# EAGLE library part 390322-1 (library Custom)
DIMM SOCKET 144 POS, 0.8mm PITCH
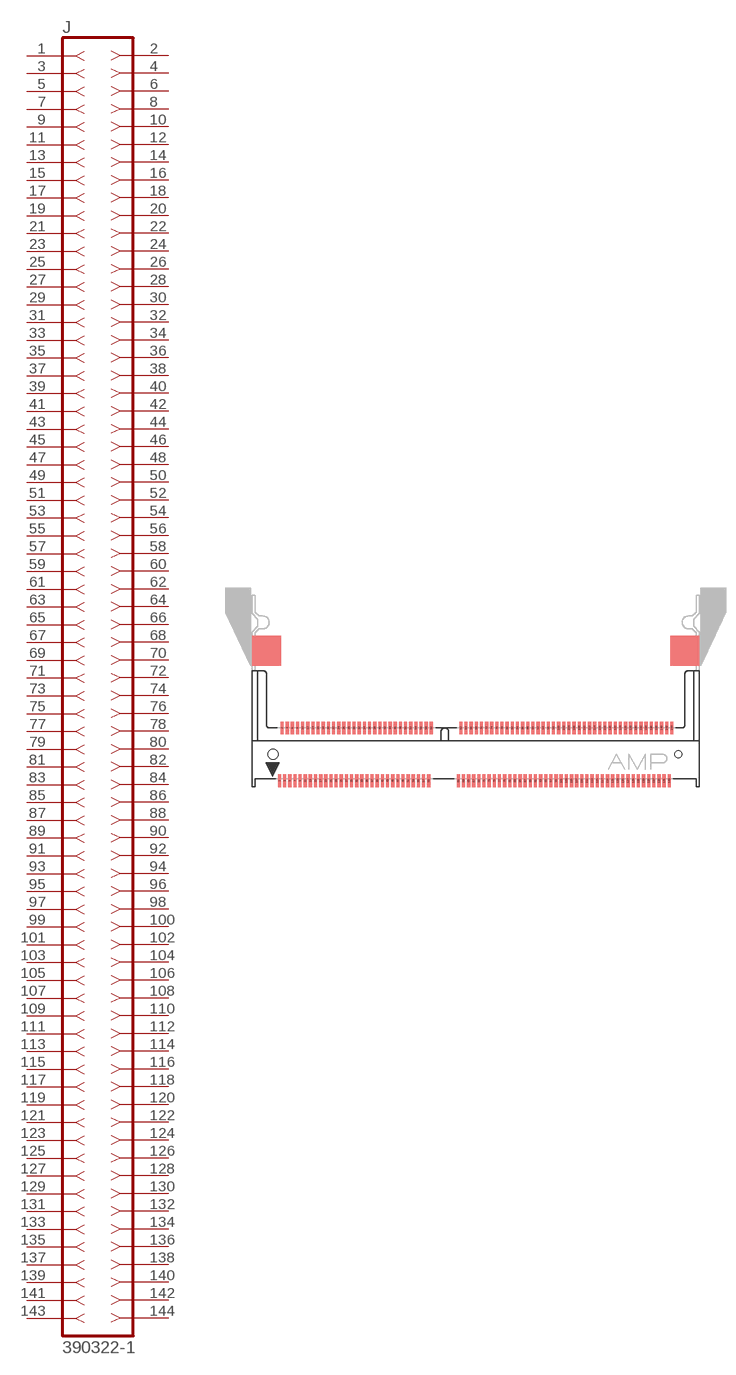
[diagram p18: symbol with the pads of 390322-1; footprint 390322-1]

Designator prefix J

## 390322-1  [390322-1]
1  GND$0  pwr
2  2
3  DQ0
4  4
5  5
6  6
7  7
8  8
9  9
10  10
11  11
12  12
13  13
14  14
15  15
16  16
17  17
18  18
19  19
20  20
21  21
22  22
23  23
24  24
25  25
26  26
27  27
28  28
29  29
30  30
31  31
32  32
33  33
34  34
35  35
36  36
37  37
38  38
39  39
40  40
41  41
42  42
43  43
44  44
45  45
46  46
47  47
48  48
49  49
50  50
51  51
52  52
53  53
54  54
55  55
56  56
57  57
58  58
59  59
60  60
61  61
62  62
63  63
64  64
65  65
66  66
67  67
68  68
69  69
70  70
71  71
72  72
73  73
74  74
75  75
76  76
77  77
78  78
79  79
80  80
81  81
82  82
83  83
84  84
85  85
86  86
87  87
88  88
89  89
90  90
91  91
92  92
93  93
94  94
95  95
96  96
97  97
98  98
99  99
100  100
101  101
102  102
103  103
104  104
105  105
106  106
107  107
108  108
109  109
110  110
111  111
112  112
113  113
114  114
115  115
116  116
117  117
118  118
119  119
120  120
121  121
122  122
123  123
124  124
125  125
126  126
127  127
128  128
129  129
130  130
131  131
132  132
133  133
134  134
135  135
136  136
137  137
138  138
139  139
140  140
141  141
142  142
143  143
144  144

## Footprint 390322-1 (pad centres in mm)
SO-DIMM Socket 144 POS SO DIMM, AMP
smd 0.5 x 2: 1 -30.5,-4.1; 2 -30.1,4.1; 3 -29.7,-4.1; 4 -29.3,4.1; 5 -28.9,-4.1; 6 -28.5,4.1; 7 -28.1,-4.1; 8 -27.7,4.1; 9 -27.3,-4.1; 10 -26.9,4.1; 11 -26.5,-4.1; 12 -26.1,4.1; 13 -25.7,-4.1; 14 -25.3,4.1; 15 -24.9,-4.1; 16 -24.5,4.1; 17 -24.1,-4.1; 18 -23.7,4.1; 19 -23.3,-4.1; 20 -22.9,4.1; 21 -22.5,-4.1; 22 -22.1,4.1; 23 -21.7,-4.1; 24 -21.3,4.1; 25 -20.9,-4.1; 26 -20.5,4.1; 27 -20.1,-4.1; 28 -19.7,4.1; 29 -19.3,-4.1; 30 -18.9,4.1; 31 -18.5,-4.1; 32 -18.1,4.1; 33 -17.7,-4.1; 34 -17.3,4.1; 35 -16.9,-4.1; 36 -16.5,4.1; 37 -16.1,-4.1; 38 -15.7,4.1; 39 -15.3,-4.1; 40 -14.9,4.1; 41 -14.5,-4.1; 42 -14.1,4.1; 43 -13.7,-4.1; 44 -13.3,4.1; 45 -12.9,-4.1; 46 -12.5,4.1; 47 -12.1,-4.1; 48 -11.7,4.1; 49 -11.3,-4.1; 50 -10.9,4.1; 51 -10.5,-4.1; 52 -10.1,4.1; 53 -9.7,-4.1; 54 -9.3,4.1; 55 -8.9,-4.1; 56 -8.5,4.1; 57 -8.1,-4.1; 58 -7.7,4.1; 59 -7.3,-4.1; 60 -6.9,4.1; 61 -2.7,-4.1; 62 -2.3,4.1; 63 -1.9,-4.1; 64 -1.5,4.1; 65 -1.1,-4.1; 66 -0.7,4.1; 67 -0.3,-4.1; 68 0.1,4.1; 69 0.5,-4.1; 70 0.9,4.1; 71 1.3,-4.1; 72 1.7,4.1; 73 2.1,-4.1; 74 2.5,4.1; 75 2.9,-4.1; 76 3.3,4.1; 77 3.7,-4.1; 78 4.1,4.1; 79 4.5,-4.1; 80 4.9,4.1; 81 5.3,-4.1; 82 5.7,4.1; 83 6.1,-4.1; 84 6.5,4.1; 85 6.9,-4.1; 86 7.3,4.1; 87 7.7,-4.1; 88 8.1,4.1; 89 8.5,-4.1; 90 8.9,4.1; 91 9.3,-4.1; 92 9.7,4.1; 93 10.1,-4.1; 94 10.5,4.1; 95 10.9,-4.1; 96 11.3,4.1; 97 11.7,-4.1; 98 12.1,4.1; 99 12.5,-4.1; 100 12.9,4.1; 101 13.3,-4.1; 102 13.7,4.1; 103 14.1,-4.1; 104 14.5,4.1; 105 14.9,-4.1; 106 15.3,4.1; 107 15.7,-4.1; 108 16.1,4.1; 109 16.5,-4.1; 110 16.9,4.1; 111 17.3,-4.1; 112 17.7,4.1; 113 18.1,-4.1; 114 18.5,4.1; 115 18.9,-4.1; 116 19.3,4.1; 117 19.7,-4.1; 118 20.1,4.1; 119 20.5,-4.1; 120 20.9,4.1; 121 21.3,-4.1; 122 21.7,4.1; 123 22.1,-4.1; 124 22.5,4.1; 125 22.9,-4.1; 126 23.3,4.1; 127 23.7,-4.1; 128 24.1,4.1; 129 24.5,-4.1; 130 24.9,4.1; 131 25.3,-4.1; 132 25.7,4.1; 133 26.1,-4.1; 134 26.5,4.1; 135 26.9,-4.1; 136 27.3,4.1; 137 27.7,-4.1; 138 28.1,4.1; 139 28.5,-4.1; 140 28.9,4.1; 141 29.3,-4.1; 142 29.7,4.1; 143 30.1,-4.1; 144 30.5,4.1
hole 1.6 at -31.5,0
hole 1.1 at 31.5,0